# Altium integrated library Analog Devices Temperature Sensors.IntLib: 271 symbols (part 2 of 14)
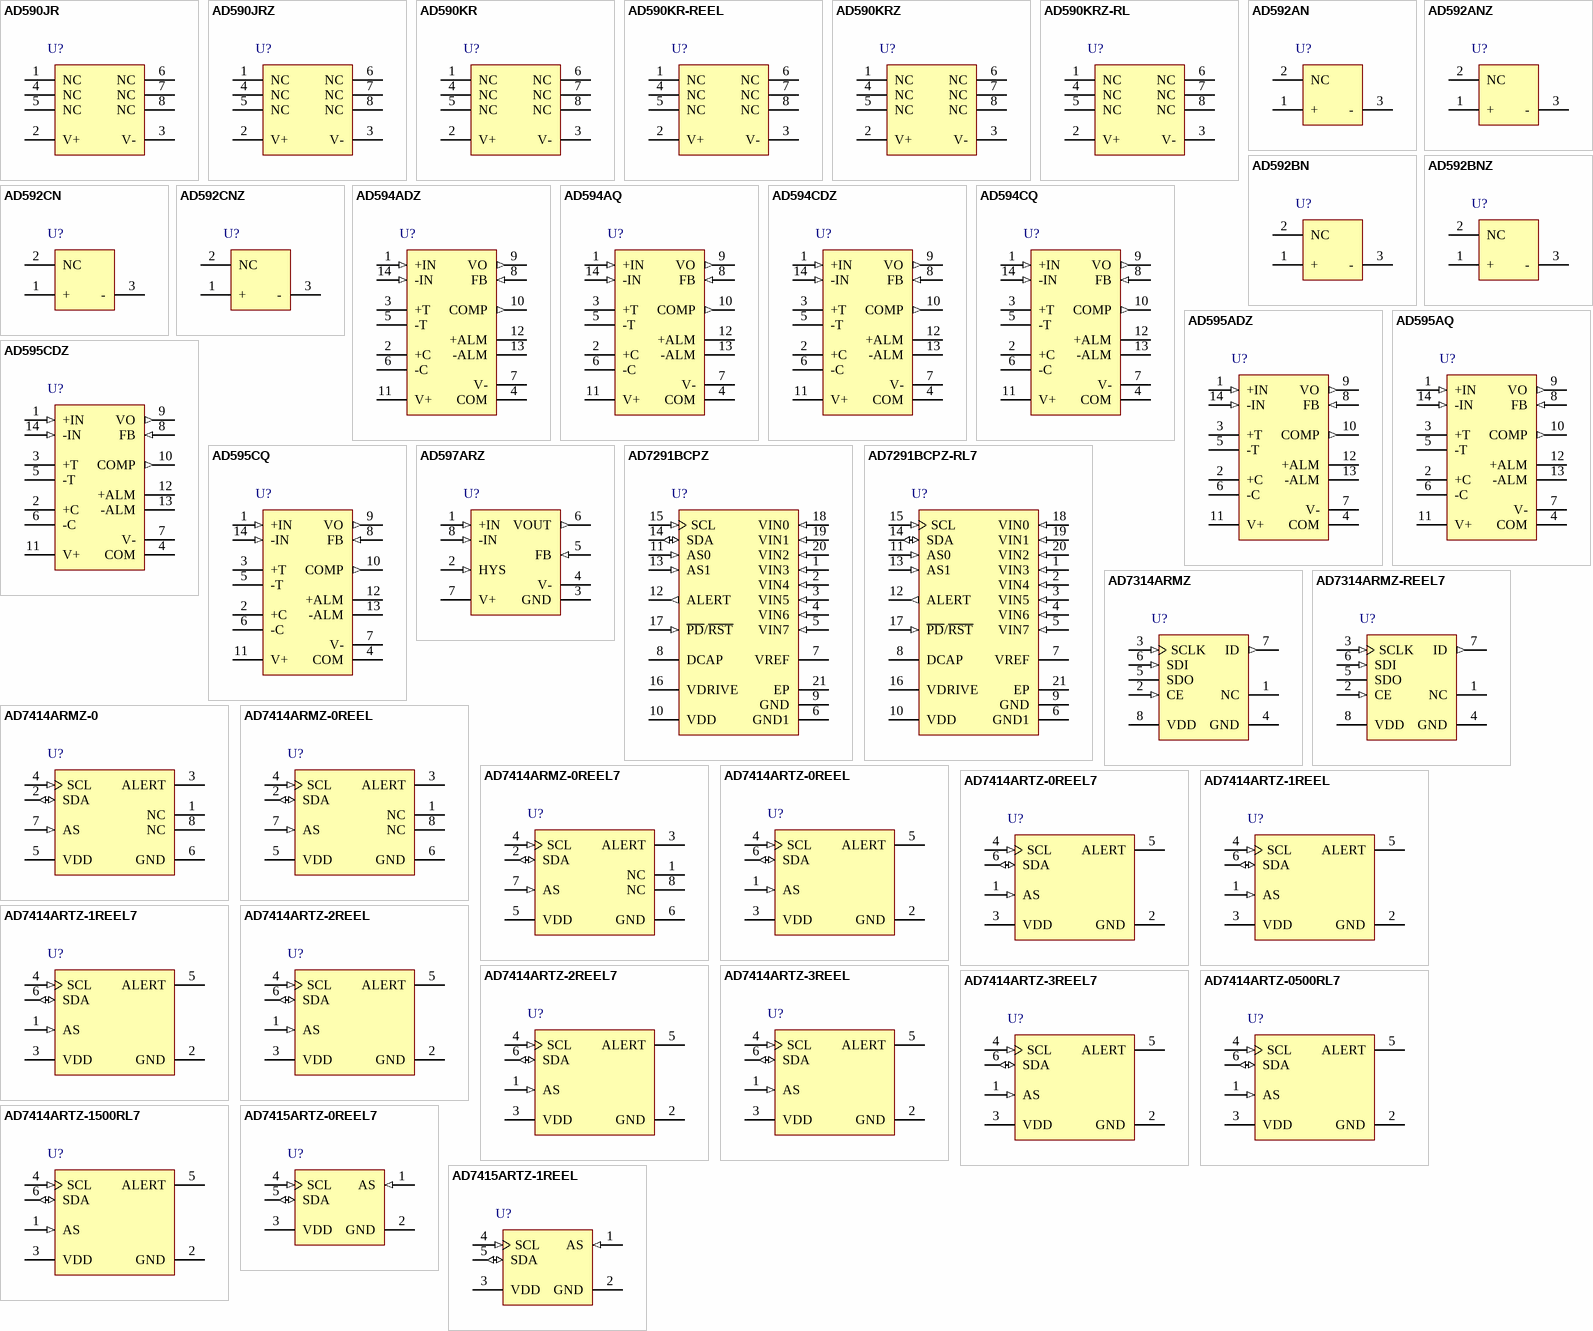
[diagram p8: symbols AD590JR to AD7415ARTZ-1REEL]

## AD7414ARMZ-0REEL
designator U?
+/-0.5 degrees C Accurate, 10-Bit Digital Temperature Sensor, 2.7 to 5.5 V Supply, Industrial, 8-pin SOP (RM-8), Reel; Manufacturer: Analog Devices; PartNumber: AD7414ARMZ-0REEL; DatasheetVersion: Rev. F; PackageVersion: 08/2005; PackageReference: RM-8; PackageDescription: 8-Pin Mini Small Outline Package, Body 3 x 3 mm, Pitch 0.65 mm; Supplier 1: Digi-Key; Supplier Part Number 1: AD7414ARMZ-0REEL-ND; Supplier 2: Mouser; Supplier Part Number 2: 584-AD7414ARMZ-0R; Packing: Reel; Supply Voltage Range: 2.7 to 5.5 V; Mounting Technology: Surface Mount; Code_JEDEC: MO-187-AA; ComponentLink1Description: Manufacturer URL; ComponentLink1URL: http://www.analog.com/en/index.html; ComponentLink2Description: Datasheet; ComponentLink2URL: http://www.analog.com/static/imported-files/data_sheets/AD7414_7415.pdf; ComponentLink3Description: Package Specification; ComponentLink3URL: http://www.analog.com/static/imported-files/packages/PKG_PDF/MSOP%28RM%29/RM_8.pdf; ComponentLink4Description: Product URL; ComponentLink4URL: http://www.analog.com/en/mems-sensors/digital-temperature-sensors/ad7414/products/product.html
footprint ADI-RM-8_N (SOP, 8-Leads, Body 3x3mm, Pitch 0.65mm, IPC Medium Density)
footprint ADI-RM-8_L (SOP, 8-Leads, Body 3x3mm, Pitch 0.65mm, IPC High Density)
footprint ADI-RM-8_M (SOP, 8-Leads, Body 3x3mm, Pitch 0.65mm, IPC Low Density)
pins: 1 NC "No Connect", 2 SDA (io) "Digital I/O. Serial bus bidirectional data. Open-drain output.", 3 ALERT (oc) "AD7414 Digital Output. Overtemperature indicator becomes active when temperature exceeds THIGH. Open-drain output.", 4 SCL (in) "Digital Input. Serial bus clock.", 5 VDD (power) "Positive Supply Voltage, 2.7 V to 5.5 V.", 6 GND (power) "Analog and Digital Ground.", 7 AS (in) "Logic Input. Address select input that selects one of three I2C addresses for the AD7414/AD7415 (see Table 4). Recommend a pull-up or pull-down resistor of 1 k ohm.", 8 NC "No Connect"

## AD7414ARMZ-0REEL7
designator U?
+/-0.5 degrees C Accurate, 10-Bit Digital Temperature Sensor, 2.7 to 5.5 V Supply, Industrial, 8-pin SOP (RM-8), Reel; Manufacturer: Analog Devices; PartNumber: AD7414ARMZ-0REEL7; DatasheetVersion: Rev. F; PackageVersion: 08/2005; PackageReference: RM-8; PackageDescription: 8-Pin Mini Small Outline Package, Body 3 x 3 mm, Pitch 0.65 mm; Supplier 1: Digi-Key; Supplier Part Number 1: AD7414ARMZ-0REEL7-ND; Supplier 2: Mouser; Supplier Part Number 2: 584-AD7414ARMZ-0R7; Packing: Reel; Supply Voltage Range: 2.7 to 5.5 V; Mounting Technology: Surface Mount; Code_JEDEC: MO-187-AA; ComponentLink1Description: Manufacturer URL; ComponentLink1URL: http://www.analog.com/en/index.html; ComponentLink2Description: Datasheet; ComponentLink2URL: http://www.analog.com/static/imported-files/data_sheets/AD7414_7415.pdf; ComponentLink3Description: Package Specification; ComponentLink3URL: http://www.analog.com/static/imported-files/packages/PKG_PDF/MSOP%28RM%29/RM_8.pdf; ComponentLink4Description: Product URL; ComponentLink4URL: http://www.analog.com/en/mems-sensors/digital-temperature-sensors/ad7414/products/product.html
footprint ADI-RM-8_N (SOP, 8-Leads, Body 3x3mm, Pitch 0.65mm, IPC Medium Density)
footprint ADI-RM-8_L (SOP, 8-Leads, Body 3x3mm, Pitch 0.65mm, IPC High Density)
footprint ADI-RM-8_M (SOP, 8-Leads, Body 3x3mm, Pitch 0.65mm, IPC Low Density)
pins: 1 NC "No Connect", 2 SDA (io) "Digital I/O. Serial bus bidirectional data. Open-drain output.", 3 ALERT (oc) "AD7414 Digital Output. Overtemperature indicator becomes active when temperature exceeds THIGH. Open-drain output.", 4 SCL (in) "Digital Input. Serial bus clock.", 5 VDD (power) "Positive Supply Voltage, 2.7 V to 5.5 V.", 6 GND (power) "Analog and Digital Ground.", 7 AS (in) "Logic Input. Address select input that selects one of three I2C addresses for the AD7414/AD7415 (see Table 4). Recommend a pull-up or pull-down resistor of 1 k ohm.", 8 NC "No Connect"

## AD7414ARTZ-0REEL
designator U?
+/-0.5 degrees C Accurate, 10-Bit Digital Temperature Sensor, 2.7 to 5.5 V Supply, Industrial, 6-pin SOT23 (RJ-6), Reel; Manufacturer: Analog Devices; PartNumber: AD7414ARTZ-0REEL; DatasheetVersion: Rev. F; PackageVersion: 121608-A, 12/2008; PackageReference: RJ-6; PackageDescription: 6-Pin Small Outline Transistor Package, Body 2.9 x 1.6 mm, Pitch 0.95 mm; Supplier 1: Digi-Key; Supplier Part Number 1: AD7414ARTZ-0REEL-ND; Supplier 2: Newark; Supplier Part Number 2: 59K4778; Supplier 3: Mouser; Supplier Part Number 3: 584-AD7414ARTZ-0R; Packing: Reel; Supply Voltage Range: 2.7 to 5.5 V; Mounting Technology: Surface Mount; Code_JEDEC: MO-178-AB; ComponentLink1Description: Manufacturer URL; ComponentLink1URL: http://www.analog.com/en/index.html; ComponentLink2Description: Datasheet; ComponentLink2URL: http://www.analog.com/static/imported-files/data_sheets/AD7414_7415.pdf; ComponentLink3Description: Package Specification; ComponentLink3URL: http://www.analog.com/static/imported-files/packages/PKG_PDF/SOT-23(RJ)/RJ_6.pdf; ComponentLink4Description: Product URL; ComponentLink4URL: http://www.analog.com/en/mems-sensors/digital-temperature-sensors/ad7414/products/product.html
footprint ADI-RJ-6_N (SOT23, 6-Leads, Body 2.9x1.6mm, Pitch 0.95mm, IPC Medium Density)
footprint ADI-RJ-6_L (SOT23, 6-Leads, Body 2.9x1.6mm, Pitch 0.95mm, IPC High Density)
footprint ADI-RJ-6_M (SOT23, 6-Leads, Body 2.9x1.6mm, Pitch 0.95mm, IPC Low Density)
pins: 1 AS (in) "Logic Input. Address select input that selects one of three I2C addresses for the AD7414/AD7415 (see Table 4). Recommend a pull-up or pull-down resistor of 1 k ohm.", 2 GND (power) "Analog and Digital Ground.", 3 VDD (power) "Positive Supply Voltage, 2.7 V to 5.5 V.", 4 SCL (in) "Digital Input. Serial bus clock", 5 ALERT (oc) "AD7414 Digital Output. Overtemperature indicator becomes active when temperature exceeds THIGH. Open-drain output", 6 SDA (io) "Digital I/O. Serial bus bidirectional data. Open-drain output."

## AD7414ARTZ-0REEL7
designator U?
+/-0.5 degrees C Accurate, 10-Bit Digital Temperature Sensor, 2.7 to 5.5 V Supply, Industrial, 6-pin SOT23 (RJ-6), Reel; Manufacturer: Analog Devices; PartNumber: AD7414ARTZ-0REEL7; DatasheetVersion: Rev. F; PackageVersion: 121608-A, 12/2008; PackageReference: RJ-6; PackageDescription: 6-Pin Small Outline Transistor Package, Body 2.9 x 1.6 mm, Pitch 0.95 mm; Supplier 1: Digi-Key; Supplier Part Number 1: AD7414ARTZ-0REEL7TR-ND; Supplier 2: Digi-Key; Supplier Part Number 2: AD7414ARTZ-0REEL7CT-ND; Supplier 3: Digi-Key; Supplier Part Number 3: AD7414ARTZ-0REEL7DKR-ND; Supplier 4: Newark; Supplier Part Number 4: 59K4779; Supplier 5: Mouser; Supplier Part Number 5: 584-AD7414ARTZ-0R7; Packing: Reel; Supply Voltage Range: 2.7 to 5.5 V; Mounting Technology: Surface Mount; Code_JEDEC: MO-178-AB; ComponentLink1Description: Manufacturer URL; ComponentLink1URL: http://www.analog.com/en/index.html; ComponentLink2Description: Datasheet; ComponentLink2URL: http://www.analog.com/static/imported-files/data_sheets/AD7414_7415.pdf; ComponentLink3Description: Package Specification; ComponentLink3URL: http://www.analog.com/static/imported-files/packages/PKG_PDF/SOT-23(RJ)/RJ_6.pdf; ComponentLink4Description: Product URL; ComponentLink4URL: http://www.analog.com/en/mems-sensors/digital-temperature-sensors/ad7414/products/product.html
footprint ADI-RJ-6_N (SOT23, 6-Leads, Body 2.9x1.6mm, Pitch 0.95mm, IPC Medium Density)
footprint ADI-RJ-6_L (SOT23, 6-Leads, Body 2.9x1.6mm, Pitch 0.95mm, IPC High Density)
footprint ADI-RJ-6_M (SOT23, 6-Leads, Body 2.9x1.6mm, Pitch 0.95mm, IPC Low Density)
pins: 1 AS (in) "Logic Input. Address select input that selects one of three I2C addresses for the AD7414/AD7415 (see Table 4). Recommend a pull-up or pull-down resistor of 1 k ohm.", 2 GND (power) "Analog and Digital Ground.", 3 VDD (power) "Positive Supply Voltage, 2.7 V to 5.5 V.", 4 SCL (in) "Digital Input. Serial bus clock", 5 ALERT (oc) "AD7414 Digital Output. Overtemperature indicator becomes active when temperature exceeds THIGH. Open-drain output", 6 SDA (io) "Digital I/O. Serial bus bidirectional data. Open-drain output."

## AD7414ARTZ-1REEL
designator U?
+/-0.5 degrees C Accurate, 10-Bit Digital Temperature Sensor, 2.7 to 5.5 V Supply, Industrial, 6-pin SOT23 (RJ-6), Reel; Manufacturer: Analog Devices; PartNumber: AD7414ARTZ-1REEL; DatasheetVersion: Rev. F; PackageVersion: 121608-A, 12/2008; PackageReference: RJ-6; PackageDescription: 6-Pin Small Outline Transistor Package, Body 2.9 x 1.6 mm, Pitch 0.95 mm; Supplier 1: Digi-Key; Supplier Part Number 1: AD7414ARTZ-1REEL-ND; Supplier 2: Mouser; Supplier Part Number 2: 584-AD7414ARTZ-1R; Packing: Reel; Supply Voltage Range: 2.7 to 5.5 V; Mounting Technology: Surface Mount; Code_JEDEC: MO-178-AB; ComponentLink1Description: Manufacturer URL; ComponentLink1URL: http://www.analog.com/en/index.html; ComponentLink2Description: Datasheet; ComponentLink2URL: http://www.analog.com/static/imported-files/data_sheets/AD7414_7415.pdf; ComponentLink3Description: Package Specification; ComponentLink3URL: http://www.analog.com/static/imported-files/packages/PKG_PDF/SOT-23(RJ)/RJ_6.pdf; ComponentLink4Description: Product URL; ComponentLink4URL: http://www.analog.com/en/mems-sensors/digital-temperature-sensors/ad7414/products/product.html
footprint ADI-RJ-6_N (SOT23, 6-Leads, Body 2.9x1.6mm, Pitch 0.95mm, IPC Medium Density)
footprint ADI-RJ-6_L (SOT23, 6-Leads, Body 2.9x1.6mm, Pitch 0.95mm, IPC High Density)
footprint ADI-RJ-6_M (SOT23, 6-Leads, Body 2.9x1.6mm, Pitch 0.95mm, IPC Low Density)
pins: 1 AS (in) "Logic Input. Address select input that selects one of three I2C addresses for the AD7414/AD7415 (see Table 4). Recommend a pull-up or pull-down resistor of 1 k ohm.", 2 GND (power) "Analog and Digital Ground.", 3 VDD (power) "Positive Supply Voltage, 2.7 V to 5.5 V.", 4 SCL (in) "Digital Input. Serial bus clock", 5 ALERT (oc) "AD7414 Digital Output. Overtemperature indicator becomes active when temperature exceeds THIGH. Open-drain output", 6 SDA (io) "Digital I/O. Serial bus bidirectional data. Open-drain output."

## AD7414ARTZ-1REEL7
designator U?
+/-0.5 degrees C Accurate, 10-Bit Digital Temperature Sensor, 2.7 to 5.5 V Supply, Industrial, 6-pin SOT23 (RJ-6), Reel; Manufacturer: Analog Devices; PartNumber: AD7414ARTZ-1REEL7; DatasheetVersion: Rev. F; PackageVersion: 121608-A, 12/2008; PackageReference: RJ-6; PackageDescription: 6-Pin Small Outline Transistor Package, Body 2.9 x 1.6 mm, Pitch 0.95 mm; Supplier 1: Digi-Key; Supplier Part Number 1: AD7414ARTZ-1REEL7TR-ND; Supplier 2: Digi-Key; Supplier Part Number 2: AD7414ARTZ-1REEL7CT-ND; Supplier 3: Digi-Key; Supplier Part Number 3: AD7414ARTZ-1REEL7DKR-ND; Supplier 4: Farnell; Supplier Part Number 4: 2312977; Supplier 5: Newark; Supplier Part Number 5: 67W3171; Supplier 6: Newark; Supplier Part Number 6: 12M8804; Supplier 7: Mouser; Supplier Part Number 7: 584-AD7414ARTZ-1R7; Packing: Reel; Supply Voltage Range: 2.7 to 5.5 V; Mounting Technology: Surface Mount; Code_JEDEC: MO-178-AB; ComponentLink1Description: Manufacturer URL; ComponentLink1URL: http://www.analog.com/en/index.html; ComponentLink2Description: Datasheet; ComponentLink2URL: http://www.analog.com/static/imported-files/data_sheets/AD7414_7415.pdf; ComponentLink3Description: Package Specification; ComponentLink3URL: http://www.analog.com/static/imported-files/packages/PKG_PDF/SOT-23(RJ)/RJ_6.pdf; ComponentLink4Description: Product URL; ComponentLink4URL: http://www.analog.com/en/mems-sensors/digital-temperature-sensors/ad7414/products/product.html
footprint ADI-RJ-6_N (SOT23, 6-Leads, Body 2.9x1.6mm, Pitch 0.95mm, IPC Medium Density)
footprint ADI-RJ-6_L (SOT23, 6-Leads, Body 2.9x1.6mm, Pitch 0.95mm, IPC High Density)
footprint ADI-RJ-6_M (SOT23, 6-Leads, Body 2.9x1.6mm, Pitch 0.95mm, IPC Low Density)
pins: 1 AS (in) "Logic Input. Address select input that selects one of three I2C addresses for the AD7414/AD7415 (see Table 4). Recommend a pull-up or pull-down resistor of 1 k ohm.", 2 GND (power) "Analog and Digital Ground.", 3 VDD (power) "Positive Supply Voltage, 2.7 V to 5.5 V.", 4 SCL (in) "Digital Input. Serial bus clock", 5 ALERT (oc) "AD7414 Digital Output. Overtemperature indicator becomes active when temperature exceeds THIGH. Open-drain output", 6 SDA (io) "Digital I/O. Serial bus bidirectional data. Open-drain output."

## AD7414ARTZ-2REEL
designator U?
+/-0.5 degrees C Accurate, 10-Bit Digital Temperature Sensor, 2.7 to 5.5 V Supply, Industrial, 6-pin SOT23 (RJ-6), Reel; Manufacturer: Analog Devices; PartNumber: AD7414ARTZ-2REEL; DatasheetVersion: Rev. F; PackageVersion: 121608-A, 12/2008; PackageReference: RJ-6; PackageDescription: 6-Pin Small Outline Transistor Package, Body 2.9 x 1.6 mm, Pitch 0.95 mm; Supplier 1: Digi-Key; Supplier Part Number 1: AD7414ARTZ-2REEL-ND; Supplier 2: Mouser; Supplier Part Number 2: 584-AD7414ARTZ-2R; Packing: Reel; Supply Voltage Range: 2.7 to 5.5 V; Mounting Technology: Surface Mount; Code_JEDEC: MO-178-AB; ComponentLink1Description: Manufacturer URL; ComponentLink1URL: http://www.analog.com/en/index.html; ComponentLink2Description: Datasheet; ComponentLink2URL: http://www.analog.com/static/imported-files/data_sheets/AD7414_7415.pdf; ComponentLink3Description: Package Specification; ComponentLink3URL: http://www.analog.com/static/imported-files/packages/PKG_PDF/SOT-23(RJ)/RJ_6.pdf; ComponentLink4Description: Product URL; ComponentLink4URL: http://www.analog.com/en/mems-sensors/digital-temperature-sensors/ad7414/products/product.html
footprint ADI-RJ-6_N (SOT23, 6-Leads, Body 2.9x1.6mm, Pitch 0.95mm, IPC Medium Density)
footprint ADI-RJ-6_L (SOT23, 6-Leads, Body 2.9x1.6mm, Pitch 0.95mm, IPC High Density)
footprint ADI-RJ-6_M (SOT23, 6-Leads, Body 2.9x1.6mm, Pitch 0.95mm, IPC Low Density)
pins: 1 AS (in) "Logic Input. Address select input that selects one of three I2C addresses for the AD7414/AD7415 (see Table 4). Recommend a pull-up or pull-down resistor of 1 k ohm.", 2 GND (power) "Analog and Digital Ground.", 3 VDD (power) "Positive Supply Voltage, 2.7 V to 5.5 V.", 4 SCL (in) "Digital Input. Serial bus clock", 5 ALERT (oc) "AD7414 Digital Output. Overtemperature indicator becomes active when temperature exceeds THIGH. Open-drain output", 6 SDA (io) "Digital I/O. Serial bus bidirectional data. Open-drain output."

## AD7414ARTZ-2REEL7
designator U?
+/-0.5 degrees C Accurate, 10-Bit Digital Temperature Sensor, 2.7 to 5.5 V Supply, Industrial, 6-pin SOT23 (RJ-6), Reel; Manufacturer: Analog Devices; PartNumber: AD7414ARTZ-2REEL7; DatasheetVersion: Rev. F; PackageVersion: 121608-A, 12/2008; PackageReference: RJ-6; PackageDescription: 6-Pin Small Outline Transistor Package, Body 2.9 x 1.6 mm, Pitch 0.95 mm; Supplier 1: Digi-Key; Supplier Part Number 1: AD7414ARTZ-2REEL7TR-ND; Supplier 2: Digi-Key; Supplier Part Number 2: AD7414ARTZ-2REEL7CT-ND; Supplier 3: Digi-Key; Supplier Part Number 3: AD7414ARTZ-2REEL7DKR-ND; Supplier 4: Mouser; Supplier Part Number 4: 584-AD7414ARTZ-2R7; Packing: Reel; Supply Voltage Range: 2.7 to 5.5 V; Mounting Technology: Surface Mount; Code_JEDEC: MO-178-AB; ComponentLink1Description: Manufacturer URL; ComponentLink1URL: http://www.analog.com/en/index.html; ComponentLink2Description: Datasheet; ComponentLink2URL: http://www.analog.com/static/imported-files/data_sheets/AD7414_7415.pdf; ComponentLink3Description: Package Specification; ComponentLink3URL: http://www.analog.com/static/imported-files/packages/PKG_PDF/SOT-23(RJ)/RJ_6.pdf; ComponentLink4Description: Product URL; ComponentLink4URL: http://www.analog.com/en/mems-sensors/digital-temperature-sensors/ad7414/products/product.html
footprint ADI-RJ-6_N (SOT23, 6-Leads, Body 2.9x1.6mm, Pitch 0.95mm, IPC Medium Density)
footprint ADI-RJ-6_L (SOT23, 6-Leads, Body 2.9x1.6mm, Pitch 0.95mm, IPC High Density)
footprint ADI-RJ-6_M (SOT23, 6-Leads, Body 2.9x1.6mm, Pitch 0.95mm, IPC Low Density)
pins: 1 AS (in) "Logic Input. Address select input that selects one of three I2C addresses for the AD7414/AD7415 (see Table 4). Recommend a pull-up or pull-down resistor of 1 k ohm.", 2 GND (power) "Analog and Digital Ground.", 3 VDD (power) "Positive Supply Voltage, 2.7 V to 5.5 V.", 4 SCL (in) "Digital Input. Serial bus clock", 5 ALERT (oc) "AD7414 Digital Output. Overtemperature indicator becomes active when temperature exceeds THIGH. Open-drain output", 6 SDA (io) "Digital I/O. Serial bus bidirectional data. Open-drain output."

## AD7414ARTZ-3REEL
designator U?
+/-0.5 degrees C Accurate, 10-Bit Digital Temperature Sensor, 2.7 to 5.5 V Supply, Industrial, 6-pin SOT23 (RJ-6), Reel; Manufacturer: Analog Devices; PartNumber: AD7414ARTZ-3REEL; DatasheetVersion: Rev. F; PackageVersion: 121608-A, 12/2008; PackageReference: RJ-6; PackageDescription: 6-Pin Small Outline Transistor Package, Body 2.9 x 1.6 mm, Pitch 0.95 mm; Supplier 1: Digi-Key; Supplier Part Number 1: AD7414ARTZ-3REEL-ND; Supplier 2: Mouser; Supplier Part Number 2: 584-AD7414ARTZ-3R; Packing: Reel; Supply Voltage Range: 2.7 to 5.5 V; Mounting Technology: Surface Mount; Code_JEDEC: MO-178-AB; ComponentLink1Description: Manufacturer URL; ComponentLink1URL: http://www.analog.com/en/index.html; ComponentLink2Description: Datasheet; ComponentLink2URL: http://www.analog.com/static/imported-files/data_sheets/AD7414_7415.pdf; ComponentLink3Description: Package Specification; ComponentLink3URL: http://www.analog.com/static/imported-files/packages/PKG_PDF/SOT-23(RJ)/RJ_6.pdf; ComponentLink4Description: Product URL; ComponentLink4URL: http://www.analog.com/en/mems-sensors/digital-temperature-sensors/ad7414/products/product.html
footprint ADI-RJ-6_N (SOT23, 6-Leads, Body 2.9x1.6mm, Pitch 0.95mm, IPC Medium Density)
footprint ADI-RJ-6_L (SOT23, 6-Leads, Body 2.9x1.6mm, Pitch 0.95mm, IPC High Density)
footprint ADI-RJ-6_M (SOT23, 6-Leads, Body 2.9x1.6mm, Pitch 0.95mm, IPC Low Density)
pins: 1 AS (in) "Logic Input. Address select input that selects one of three I2C addresses for the AD7414/AD7415 (see Table 4). Recommend a pull-up or pull-down resistor of 1 k ohm.", 2 GND (power) "Analog and Digital Ground.", 3 VDD (power) "Positive Supply Voltage, 2.7 V to 5.5 V.", 4 SCL (in) "Digital Input. Serial bus clock", 5 ALERT (oc) "AD7414 Digital Output. Overtemperature indicator becomes active when temperature exceeds THIGH. Open-drain output", 6 SDA (io) "Digital I/O. Serial bus bidirectional data. Open-drain output."

## AD7414ARTZ-3REEL7
designator U?
+/-0.5 degrees C Accurate, 10-Bit Digital Temperature Sensor, 2.7 to 5.5 V Supply, Industrial, 6-pin SOT23 (RJ-6), Reel; Manufacturer: Analog Devices; PartNumber: AD7414ARTZ-3REEL7; DatasheetVersion: Rev. F; PackageVersion: 121608-A, 12/2008; PackageReference: RJ-6; PackageDescription: 6-Pin Small Outline Transistor Package, Body 2.9 x 1.6 mm, Pitch 0.95 mm; Supplier 1: Digi-Key; Supplier Part Number 1: AD7414ARTZ-3REEL7TR-ND; Supplier 2: Digi-Key; Supplier Part Number 2: AD7414ARTZ-3REEL7CT-ND; Supplier 3: Digi-Key; Supplier Part Number 3: AD7414ARTZ-3REEL7DKR-ND; Supplier 4: Mouser; Supplier Part Number 4: 584-AD7414ARTZ-3R7; Packing: Reel; Supply Voltage Range: 2.7 to 5.5 V; Mounting Technology: Surface Mount; Code_JEDEC: MO-178-AB; ComponentLink1Description: Manufacturer URL; ComponentLink1URL: http://www.analog.com/en/index.html; ComponentLink2Description: Datasheet; ComponentLink2URL: http://www.analog.com/static/imported-files/data_sheets/AD7414_7415.pdf; ComponentLink3Description: Package Specification; ComponentLink3URL: http://www.analog.com/static/imported-files/packages/PKG_PDF/SOT-23(RJ)/RJ_6.pdf; ComponentLink4Description: Product URL; ComponentLink4URL: http://www.analog.com/en/mems-sensors/digital-temperature-sensors/ad7414/products/product.html
footprint ADI-RJ-6_N (SOT23, 6-Leads, Body 2.9x1.6mm, Pitch 0.95mm, IPC Medium Density)
footprint ADI-RJ-6_L (SOT23, 6-Leads, Body 2.9x1.6mm, Pitch 0.95mm, IPC High Density)
footprint ADI-RJ-6_M (SOT23, 6-Leads, Body 2.9x1.6mm, Pitch 0.95mm, IPC Low Density)
pins: 1 AS (in) "Logic Input. Address select input that selects one of three I2C addresses for the AD7414/AD7415 (see Table 4). Recommend a pull-up or pull-down resistor of 1 k ohm.", 2 GND (power) "Analog and Digital Ground.", 3 VDD (power) "Positive Supply Voltage, 2.7 V to 5.5 V.", 4 SCL (in) "Digital Input. Serial bus clock", 5 ALERT (oc) "AD7414 Digital Output. Overtemperature indicator becomes active when temperature exceeds THIGH. Open-drain output", 6 SDA (io) "Digital I/O. Serial bus bidirectional data. Open-drain output."

## AD7414ARTZ-0500RL7
designator U?
+/-0.5 degrees C Accurate, 10-Bit Digital Temperature Sensor, 2.7 to 5.5 V Supply, Industrial, 6-pin SOT23 (RJ-6), Reel; Manufacturer: Analog Devices; PartNumber: AD7414ARTZ-0500RL7; DatasheetVersion: Rev. F; PackageVersion: 121608-A, 12/2008; PackageReference: RJ-6; PackageDescription: 6-Pin Small Outline Transistor Package, Body 2.9 x 1.6 mm, Pitch 0.95 mm; Supplier 1: Digi-Key; Supplier Part Number 1: AD7414ARTZ0500RTR-ND; Supplier 2: Digi-Key; Supplier Part Number 2: AD7414ARTZ0500RCT-ND; Supplier 3: Digi-Key; Supplier Part Number 3: AD7414ARTZ0500RDKR-ND; Supplier 4: Farnell; Supplier Part Number 4: 1319396; Supplier 5: Newark; Supplier Part Number 5: 19M8839; Supplier 6: Newark; Supplier Part Number 6: 59K4780; Supplier 7: Mouser; Supplier Part Number 7: 584-AD7414ARTZ0500R7; Packing: Reel; Supply Voltage Range: 2.7 to 5.5 V; Mounting Technology: Surface Mount; Code_JEDEC: MO-178-AB; ComponentLink1Description: Manufacturer URL; ComponentLink1URL: http://www.analog.com/en/index.html; ComponentLink2Description: Datasheet; ComponentLink2URL: http://www.analog.com/static/imported-files/data_sheets/AD7414_7415.pdf; ComponentLink3Description: Package Specification; ComponentLink3URL: http://www.analog.com/static/imported-files/packages/PKG_PDF/SOT-23(RJ)/RJ_6.pdf; ComponentLink4Description: Product URL; ComponentLink4URL: http://www.analog.com/en/mems-sensors/digital-temperature-sensors/ad7414/products/product.html
footprint ADI-RJ-6_N (SOT23, 6-Leads, Body 2.9x1.6mm, Pitch 0.95mm, IPC Medium Density)
footprint ADI-RJ-6_L (SOT23, 6-Leads, Body 2.9x1.6mm, Pitch 0.95mm, IPC High Density)
footprint ADI-RJ-6_M (SOT23, 6-Leads, Body 2.9x1.6mm, Pitch 0.95mm, IPC Low Density)
pins: 1 AS (in) "Logic Input. Address select input that selects one of three I2C addresses for the AD7414/AD7415 (see Table 4). Recommend a pull-up or pull-down resistor of 1 k ohm.", 2 GND (power) "Analog and Digital Ground.", 3 VDD (power) "Positive Supply Voltage, 2.7 V to 5.5 V.", 4 SCL (in) "Digital Input. Serial bus clock", 5 ALERT (oc) "AD7414 Digital Output. Overtemperature indicator becomes active when temperature exceeds THIGH. Open-drain output", 6 SDA (io) "Digital I/O. Serial bus bidirectional data. Open-drain output."

## AD7414ARTZ-1500RL7
designator U?
+/-0.5 degrees C Accurate, 10-Bit Digital Temperature Sensor, 2.7 to 5.5 V Supply, Industrial, 6-pin SOT23 (RJ-6), Reel; Manufacturer: Analog Devices; PartNumber: AD7414ARTZ-1500RL7; DatasheetVersion: Rev. F; PackageVersion: 121608-A, 12/2008; PackageReference: RJ-6; PackageDescription: 6-Pin Small Outline Transistor Package, Body 2.9 x 1.6 mm, Pitch 0.95 mm; Supplier 1: Digi-Key; Supplier Part Number 1: AD7414ARTZ-1500RL7TR-ND; Supplier 2: Digi-Key; Supplier Part Number 2: AD7414ARTZ-1500RL7CT-ND; Supplier 3: Digi-Key; Supplier Part Number 3: AD7414ARTZ-1500RL7DKR-ND; Supplier 4: Farnell; Supplier Part Number 4: 1699530; Supplier 5: Newark; Supplier Part Number 5: 12M8805; Supplier 6: Mouser; Supplier Part Number 6: 584-AD7414ARTZ1500R7; Packing: Reel; Supply Voltage Range: 2.7 to 5.5 V; Mounting Technology: Surface Mount; Code_JEDEC: MO-178-AB; ComponentLink1Description: Manufacturer URL; ComponentLink1URL: http://www.analog.com/en/index.html; ComponentLink2Description: Datasheet; ComponentLink2URL: http://www.analog.com/static/imported-files/data_sheets/AD7414_7415.pdf; ComponentLink3Description: Package Specification; ComponentLink3URL: http://www.analog.com/static/imported-files/packages/PKG_PDF/SOT-23(RJ)/RJ_6.pdf; ComponentLink4Description: Product URL; ComponentLink4URL: http://www.analog.com/en/mems-sensors/digital-temperature-sensors/ad7414/products/product.html
footprint ADI-RJ-6_N (SOT23, 6-Leads, Body 2.9x1.6mm, Pitch 0.95mm, IPC Medium Density)
footprint ADI-RJ-6_L (SOT23, 6-Leads, Body 2.9x1.6mm, Pitch 0.95mm, IPC High Density)
footprint ADI-RJ-6_M (SOT23, 6-Leads, Body 2.9x1.6mm, Pitch 0.95mm, IPC Low Density)
pins: 1 AS (in) "Logic Input. Address select input that selects one of three I2C addresses for the AD7414/AD7415 (see Table 4). Recommend a pull-up or pull-down resistor of 1 k ohm.", 2 GND (power) "Analog and Digital Ground.", 3 VDD (power) "Positive Supply Voltage, 2.7 V to 5.5 V.", 4 SCL (in) "Digital Input. Serial bus clock", 5 ALERT (oc) "AD7414 Digital Output. Overtemperature indicator becomes active when temperature exceeds THIGH. Open-drain output", 6 SDA (io) "Digital I/O. Serial bus bidirectional data. Open-drain output."

## AD7415ARTZ-0REEL7
designator U?
+/-0.5 degrees C Accurate, 10-Bit Digital Temperature Sensor, 2.7 to 5.5 V Supply, Industrial, 5-pin SOT23 (RJ-5), Reel; Manufacturer: Analog Devices; PartNumber: AD7415ARTZ-0REEL7; DatasheetVersion: Rev. F; PackageVersion: 121608-A , 12/2008; PackageReference: RJ-5; PackageDescription: 5-Pin Small Outline Transistor Package, Body 2.9 x 1.6 mm, Pitch 0.95 mm; Supplier 1: Digi-Key; Supplier Part Number 1: AD7415ARTZ-0REEL7TR-ND; Supplier 2: Digi-Key; Supplier Part Number 2: AD7415ARTZ-0REEL7CT-ND; Supplier 3: Digi-Key; Supplier Part Number 3: AD7415ARTZ-0REEL7DKR-ND; Supplier 4: Newark; Supplier Part Number 4: 59K4782; Supplier 5: Mouser; Supplier Part Number 5: 584-AD7415ARTZ-0R7; Packing: Reel; Supply Voltage Range: 2.7 to 5.5 V; Mounting Technology: Surface Mount; Code_JEDEC: MO-178-AA; ComponentLink1Description: Manufacturer URL; ComponentLink1URL: http://www.analog.com/en/index.html; ComponentLink2Description: Datasheet; ComponentLink2URL: http://www.analog.com/static/imported-files/data_sheets/AD7414_7415.pdf; ComponentLink3Description: Package Specification; ComponentLink3URL: http://www.analog.com/static/imported-files/packages/PKG_PDF/SOT-23(RJ)/RJ_5.pdf; ComponentLink4Description: Product URL; ComponentLink4URL: http://www.analog.com/en/mems-sensors/digital-temperature-sensors/ad7415/products/product.html
footprint ADI-RJ-5_N (SOT-23, 5-Leads, Body 2.9x1.6mm, Pitch 0.95mm, IPC Medium Density)
footprint ADI-RJ-5_L (SOT-23, 5-Leads, Body 2.9x1.6mm, Pitch 0.95mm, IPC High Density)
footprint ADI-RJ-5_M (SOT-23, 5-Leads, Body 2.9x1.6mm, Pitch 0.95mm, IPC Low Density)
pins: 1 AS (in) "Logic Input. Address select input that selects one of three I2C addresses for the AD7414/AD7415 (see Table 4). Recommend a pull-up or pull-down resistor of 1 k ohm.", 2 GND (power) "Analog and Digital Ground.", 3 VDD (power) "Positive Supply Voltage, 2.7 V to 5.5 V.", 4 SCL (in) "Digital Input. Serial bus clock.", 5 SDA (io) "Digital I/O. Serial bus bidirectional data. Open-drain output."

## AD7415ARTZ-1REEL
designator U?
+/-0.5 degrees C Accurate, 10-Bit Digital Temperature Sensor, 2.7 to 5.5 V Supply, Industrial, 5-pin SOT23 (RJ-5), Reel; Manufacturer: Analog Devices; PartNumber: AD7415ARTZ-1REEL; DatasheetVersion: Rev. F; PackageVersion: 121608-A , 12/2008; PackageReference: RJ-5; PackageDescription: 5-Pin Small Outline Transistor Package, Body 2.9 x 1.6 mm, Pitch 0.95 mm; Supplier 1: Digi-Key; Supplier Part Number 1: AD7415ARTZ-1REEL-ND; Supplier 2: Mouser; Supplier Part Number 2: 584-AD7415ARTZ-1R; Packing: Reel; Supply Voltage Range: 2.7 to 5.5 V; Mounting Technology: Surface Mount; Code_JEDEC: MO-178-AA; ComponentLink1Description: Manufacturer URL; ComponentLink1URL: http://www.analog.com/en/index.html; ComponentLink2Description: Datasheet; ComponentLink2URL: http://www.analog.com/static/imported-files/data_sheets/AD7414_7415.pdf; ComponentLink3Description: Package Specification; ComponentLink3URL: http://www.analog.com/static/imported-files/packages/PKG_PDF/SOT-23(RJ)/RJ_5.pdf; ComponentLink4Description: Product URL; ComponentLink4URL: http://www.analog.com/en/mems-sensors/digital-temperature-sensors/ad7415/products/product.html
footprint ADI-RJ-5_N (SOT-23, 5-Leads, Body 2.9x1.6mm, Pitch 0.95mm, IPC Medium Density)
footprint ADI-RJ-5_L (SOT-23, 5-Leads, Body 2.9x1.6mm, Pitch 0.95mm, IPC High Density)
footprint ADI-RJ-5_M (SOT-23, 5-Leads, Body 2.9x1.6mm, Pitch 0.95mm, IPC Low Density)
pins: 1 AS (in) "Logic Input. Address select input that selects one of three I2C addresses for the AD7414/AD7415 (see Table 4). Recommend a pull-up or pull-down resistor of 1 k ohm.", 2 GND (power) "Analog and Digital Ground.", 3 VDD (power) "Positive Supply Voltage, 2.7 V to 5.5 V.", 4 SCL (in) "Digital Input. Serial bus clock.", 5 SDA (io) "Digital I/O. Serial bus bidirectional data. Open-drain output."

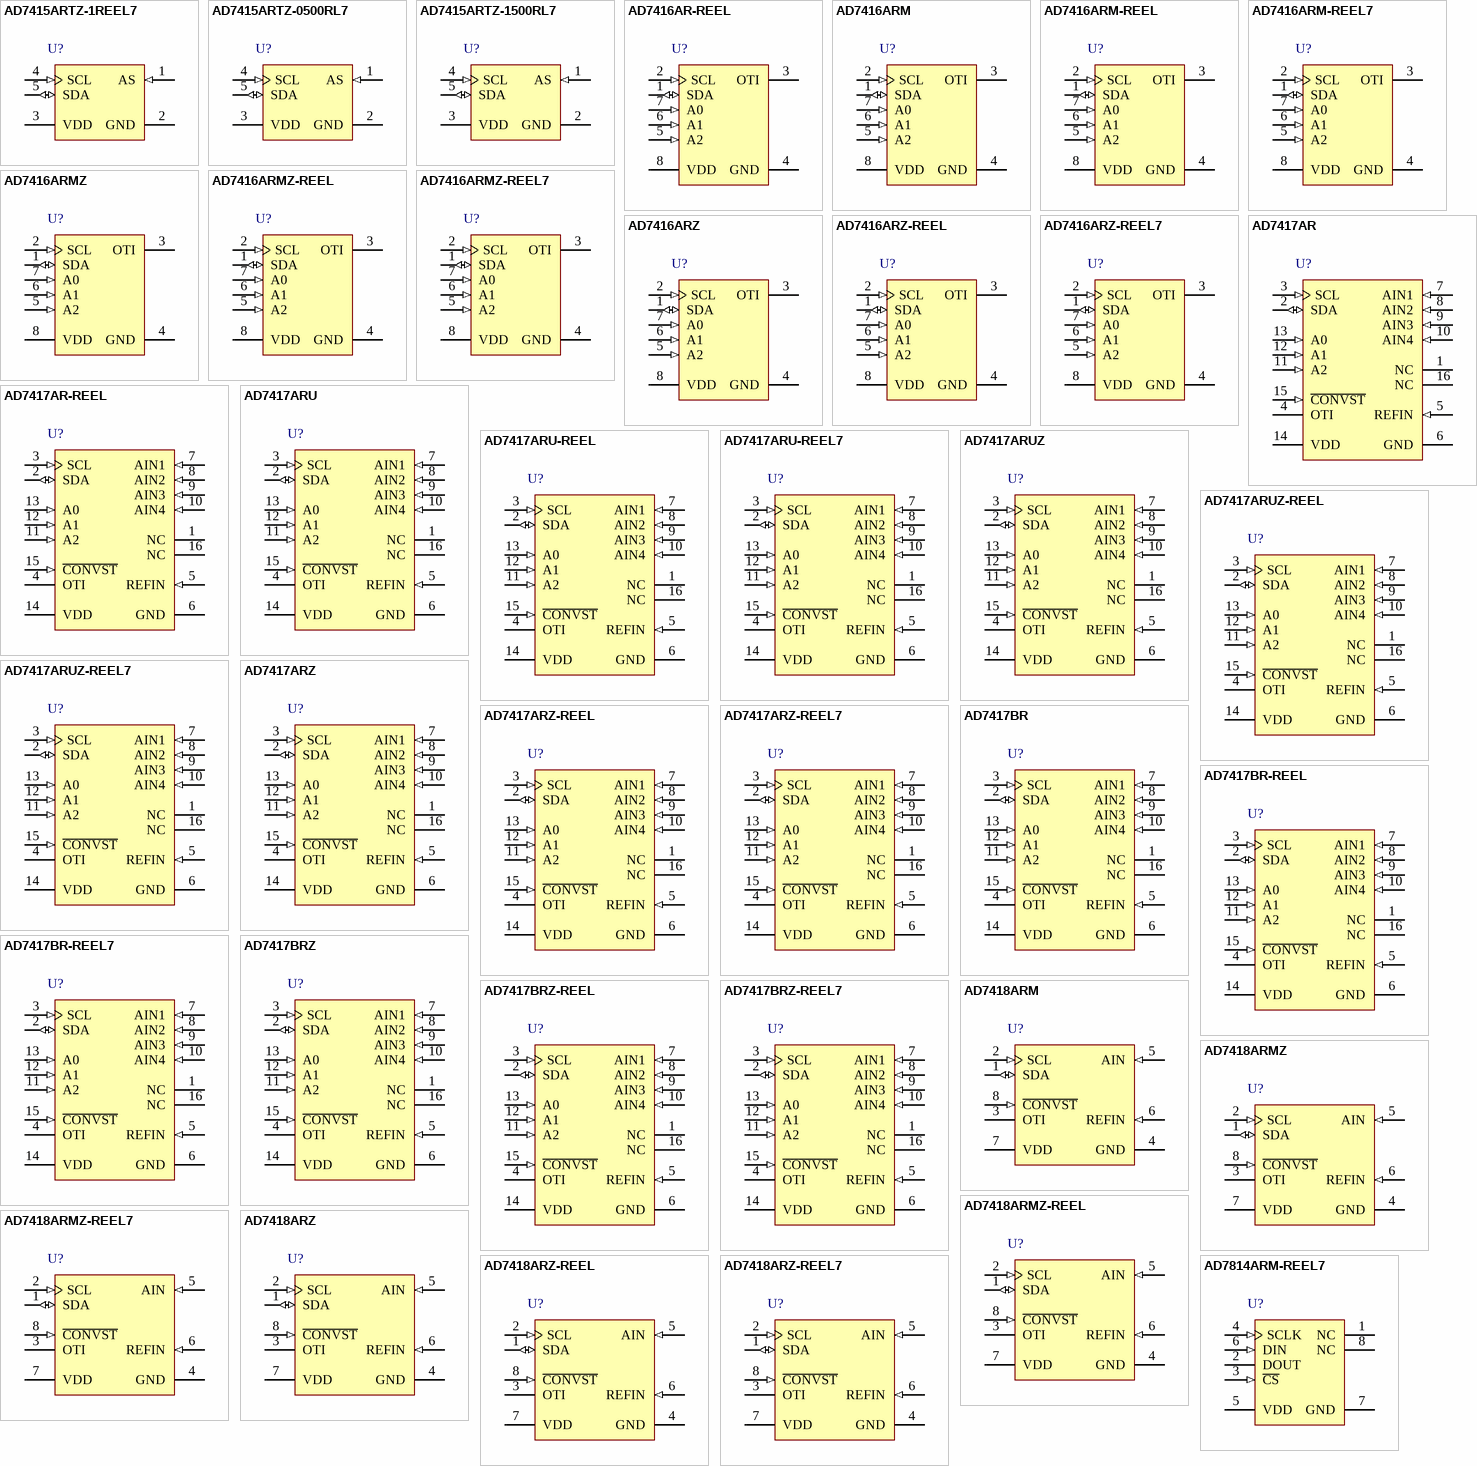
[diagram p1: symbols AD7415ARTZ-1REEL7 to AD7814ARM-REEL7]

## AD7415ARTZ-1REEL7
designator U?
+/-0.5 degrees C Accurate, 10-Bit Digital Temperature Sensor, 2.7 to 5.5 V Supply, Industrial, 5-pin SOT23 (RJ-5), Reel; Manufacturer: Analog Devices; PartNumber: AD7415ARTZ-1REEL7; DatasheetVersion: Rev. F; PackageVersion: 121608-A , 12/2008; PackageReference: RJ-5; PackageDescription: 5-Pin Small Outline Transistor Package, Body 2.9 x 1.6 mm, Pitch 0.95 mm; Supplier 1: Digi-Key; Supplier Part Number 1: AD7415ARTZ-1REEL7TR-ND; Supplier 2: Digi-Key; Supplier Part Number 2: AD7415ARTZ-1REEL7CT-ND; Supplier 3: Digi-Key; Supplier Part Number 3: AD7415ARTZ-1REEL7DKR-ND; Supplier 4: Mouser; Supplier Part Number 4: 584-AD7415ARTZ-1R7; Packing: Reel; Supply Voltage Range: 2.7 to 5.5 V; Mounting Technology: Surface Mount; Code_JEDEC: MO-178-AA; ComponentLink1Description: Manufacturer URL; ComponentLink1URL: http://www.analog.com/en/index.html; ComponentLink2Description: Datasheet; ComponentLink2URL: http://www.analog.com/static/imported-files/data_sheets/AD7414_7415.pdf; ComponentLink3Description: Package Specification; ComponentLink3URL: http://www.analog.com/static/imported-files/packages/PKG_PDF/SOT-23(RJ)/RJ_5.pdf; ComponentLink4Description: Product URL; ComponentLink4URL: http://www.analog.com/en/mems-sensors/digital-temperature-sensors/ad7415/products/product.html
footprint ADI-RJ-5_N (SOT-23, 5-Leads, Body 2.9x1.6mm, Pitch 0.95mm, IPC Medium Density)
footprint ADI-RJ-5_L (SOT-23, 5-Leads, Body 2.9x1.6mm, Pitch 0.95mm, IPC High Density)
footprint ADI-RJ-5_M (SOT-23, 5-Leads, Body 2.9x1.6mm, Pitch 0.95mm, IPC Low Density)
pins: 1 AS (in) "Logic Input. Address select input that selects one of three I2C addresses for the AD7414/AD7415 (see Table 4). Recommend a pull-up or pull-down resistor of 1 k ohm.", 2 GND (power) "Analog and Digital Ground.", 3 VDD (power) "Positive Supply Voltage, 2.7 V to 5.5 V.", 4 SCL (in) "Digital Input. Serial bus clock.", 5 SDA (io) "Digital I/O. Serial bus bidirectional data. Open-drain output."

## AD7415ARTZ-0500RL7
designator U?
+/-0.5 degrees C Accurate, 10-Bit Digital Temperature Sensor, 2.7 to 5.5 V Supply, Industrial, 5-pin SOT23 (RJ-5), Reel; Manufacturer: Analog Devices; PartNumber: AD7415ARTZ-0500RL7; DatasheetVersion: Rev. F; PackageVersion: 121608-A , 12/2008; PackageReference: RJ-5; PackageDescription: 5-Pin Small Outline Transistor Package, Body 2.9 x 1.6 mm, Pitch 0.95 mm; Supplier 1: Digi-Key; Supplier Part Number 1: AD7415ARTZ-0500RL7TR-ND; Supplier 2: Digi-Key; Supplier Part Number 2: AD7415ARTZ-0500RL7CT-ND; Supplier 3: Digi-Key; Supplier Part Number 3: AD7415ARTZ-0500RL7DKR-ND; Supplier 4: Farnell; Supplier Part Number 4: 1319397; Supplier 5: Newark; Supplier Part Number 5: 19M8840; Supplier 6: Newark; Supplier Part Number 6: 59K4783; Supplier 7: Mouser; Supplier Part Number 7: 584-AD7415ARTZ0500R7; Packing: Reel; Supply Voltage Range: 2.7 to 5.5 V; Mounting Technology: Surface Mount; Code_JEDEC: MO-178-AA; ComponentLink1Description: Manufacturer URL; ComponentLink1URL: http://www.analog.com/en/index.html; ComponentLink2Description: Datasheet; ComponentLink2URL: http://www.analog.com/static/imported-files/data_sheets/AD7414_7415.pdf; ComponentLink3Description: Package Specification; ComponentLink3URL: http://www.analog.com/static/imported-files/packages/PKG_PDF/SOT-23(RJ)/RJ_5.pdf; ComponentLink4Description: Product URL; ComponentLink4URL: http://www.analog.com/en/mems-sensors/digital-temperature-sensors/ad7415/products/product.html
footprint ADI-RJ-5_N (SOT-23, 5-Leads, Body 2.9x1.6mm, Pitch 0.95mm, IPC Medium Density)
footprint ADI-RJ-5_L (SOT-23, 5-Leads, Body 2.9x1.6mm, Pitch 0.95mm, IPC High Density)
footprint ADI-RJ-5_M (SOT-23, 5-Leads, Body 2.9x1.6mm, Pitch 0.95mm, IPC Low Density)
pins: 1 AS (in) "Logic Input. Address select input that selects one of three I2C addresses for the AD7414/AD7415 (see Table 4). Recommend a pull-up or pull-down resistor of 1 k ohm.", 2 GND (power) "Analog and Digital Ground.", 3 VDD (power) "Positive Supply Voltage, 2.7 V to 5.5 V.", 4 SCL (in) "Digital Input. Serial bus clock.", 5 SDA (io) "Digital I/O. Serial bus bidirectional data. Open-drain output."

## AD7415ARTZ-1500RL7
designator U?
+/-0.5 degrees C Accurate, 10-Bit Digital Temperature Sensor, 2.7 to 5.5 V Supply, Industrial, 5-pin SOT23 (RJ-5), Reel; Manufacturer: Analog Devices; PartNumber: AD7415ARTZ-1500RL7; DatasheetVersion: Rev. F; PackageVersion: 121608-A , 12/2008; PackageReference: RJ-5; PackageDescription: 5-Pin Small Outline Transistor Package, Body 2.9 x 1.6 mm, Pitch 0.95 mm; Supplier 1: Digi-Key; Supplier Part Number 1: AD7415ARTZ-1500RL7TR-ND; Supplier 2: Digi-Key; Supplier Part Number 2: AD7415ARTZ-1500RL7CT-ND; Supplier 3: Digi-Key; Supplier Part Number 3: AD7415ARTZ-1500RL7DKR-ND; Supplier 4: Newark; Supplier Part Number 4: 12M8810; Supplier 5: Mouser; Supplier Part Number 5: 584-AD7415ARTZ1500R7; Packing: Reel; Supply Voltage Range: 2.7 to 5.5 V; Mounting Technology: Surface Mount; Code_JEDEC: MO-178-AA; ComponentLink1Description: Manufacturer URL; ComponentLink1URL: http://www.analog.com/en/index.html; ComponentLink2Description: Datasheet; ComponentLink2URL: http://www.analog.com/static/imported-files/data_sheets/AD7414_7415.pdf; ComponentLink3Description: Package Specification; ComponentLink3URL: http://www.analog.com/static/imported-files/packages/PKG_PDF/SOT-23(RJ)/RJ_5.pdf; ComponentLink4Description: Product URL; ComponentLink4URL: http://www.analog.com/en/mems-sensors/digital-temperature-sensors/ad7415/products/product.html
footprint ADI-RJ-5_N (SOT-23, 5-Leads, Body 2.9x1.6mm, Pitch 0.95mm, IPC Medium Density)
footprint ADI-RJ-5_L (SOT-23, 5-Leads, Body 2.9x1.6mm, Pitch 0.95mm, IPC High Density)
footprint ADI-RJ-5_M (SOT-23, 5-Leads, Body 2.9x1.6mm, Pitch 0.95mm, IPC Low Density)
pins: 1 AS (in) "Logic Input. Address select input that selects one of three I2C addresses for the AD7414/AD7415 (see Table 4). Recommend a pull-up or pull-down resistor of 1 k ohm.", 2 GND (power) "Analog and Digital Ground.", 3 VDD (power) "Positive Supply Voltage, 2.7 V to 5.5 V.", 4 SCL (in) "Digital Input. Serial bus clock.", 5 SDA (io) "Digital I/O. Serial bus bidirectional data. Open-drain output."

## AD7416AR-REEL
designator U?
10-Bit Digital Temperature Sensor and Four Single-Channel ADCs, 2.7 to 5.5 V Supply, Industrial, 8-pin SOIC (R-8), Reel; Manufacturer: Analog Devices; PartNumber: AD7416AR-REEL; DatasheetVersion: Rev. I; PackageVersion: 060506-A, 06/2006; PackageReference: R-8; PackageDescription: 8-Pin Standard Small Outline Package, Body 4.9 x 3.9 mm, Pitch 1.27 mm; Supplier 1: Newark; Supplier Part Number 1: 09B5698; Supplier 2: Mouser; Supplier Part Number 2: N/A; Packing: Reel; Supply Voltage Range: 2.7 to 5.5 V; Mounting Technology: Surface Mount; Code_JEDEC: MS-012-AA; ComponentLink1Description: Manufacturer URL; ComponentLink1URL: http://www.analog.com/en/index.html; ComponentLink2Description: Datasheet; ComponentLink2URL: http://www.analog.com/static/imported-files/data_sheets/AD7416_7417_7418.pdf; ComponentLink3Description: Package Specification; ComponentLink3URL: http://www.analog.com/static/imported-files/packages/PKG_PDF/SOIC_Narrow%20(R)/R_8.pdf; ComponentLink4Description: Product URL; ComponentLink4URL: http://www.analog.com/en/mems-sensors/digital-temperature-sensors/ad7416/products/product.html
footprint ADI-R-8_N (SOIC, 8-Leads, Body 4.9x3.9mm, Pitch 1.27mm, IPC Medium Density)
footprint ADI-R-8_L (SOIC, 8-Leads, Body 4.9x3.9mm, Pitch 1.27mm, IPC High Density)
footprint ADI-R-8_M (SOIC, 8-Leads, Body 4.9x3.9mm, Pitch 1.27mm, IPC Low Density)
pins: 1 SDA (io) "Digital I/O. Serial bus bidirectional data. Push-pull output.", 2 SCL (in) "Digital Input. Serial bus clock.", 3 OTI (oc) "This pin is a logic output. The OTI is set if the result of a conversion on Channel 0 (temperature sensor) is greater than an 8-bit word in the TOTI setpoint register. The signal is reset at the end of a serial read (See Datasheet)", 4 GND (power) "Ground reference for track-and-hold, comparator and capacitor DAC, and digital circuitry.", 5 A2 (in) "Digital Input. This is the highest programmable bit of the serial bus address.", 6 A1 (in) "Digital Input. This is the middle programmable bit of the serial bus address.", 7 A0 (in) "Digital Input. This is the lowest programmable bit of the serial bus address.", 8 VDD (power) "Positive Supply Voltage, 2.7 V to 5.5 V."

## AD7416ARM
designator U?
10-Bit Digital Temperature Sensor and Four Single-Channel ADCs, 2.7 to 5.5 V Supply, Industrial, 8-pin SOP (RM-8), Tube; Manufacturer: Analog Devices; PartNumber: AD7416ARM; DatasheetVersion: Rev. I; PackageVersion: 08/2005; PackageReference: RM-8; PackageDescription: 8-Pin Mini Small Outline Package, Body 3 x 3 mm, Pitch 0.65 mm; Supplier 1: Digi-Key; Supplier Part Number 1: AD7416ARM-ND; Supplier 2: Mouser; Supplier Part Number 2: 584-AD7416ARM; Packing: Tube; Supply Voltage Range: 2.7 to 5.5 V; Mounting Technology: Surface Mount; Code_JEDEC: MO-187-AA; ComponentLink1Description: Manufacturer URL; ComponentLink1URL: http://www.analog.com/en/index.html; ComponentLink2Description: Datasheet; ComponentLink2URL: http://www.analog.com/static/imported-files/data_sheets/AD7416_7417_7418.pdf; ComponentLink3Description: Package Specification; ComponentLink3URL: http://www.analog.com/static/imported-files/packages/PKG_PDF/MSOP%28RM%29/RM_8.pdf; ComponentLink4Description: Product URL; ComponentLink4URL: http://www.analog.com/en/mems-sensors/digital-temperature-sensors/ad7416/products/product.html
footprint ADI-RM-8_N (SOP, 8-Leads, Body 3x3mm, Pitch 0.65mm, IPC Medium Density)
footprint ADI-RM-8_L (SOP, 8-Leads, Body 3x3mm, Pitch 0.65mm, IPC High Density)
footprint ADI-RM-8_M (SOP, 8-Leads, Body 3x3mm, Pitch 0.65mm, IPC Low Density)
pins: 1 SDA (io) "Digital I/O. Serial bus bidirectional data. Push-pull output.", 2 SCL (in) "Digital Input. Serial bus clock.", 3 OTI (oc) "This pin is a logic output. The OTI is set if the result of a conversion on Channel 0 (temperature sensor) is greater than an 8-bit word in the TOTI setpoint register. The signal is reset at the end of a serial read (See Datasheet)", 4 GND (power) "Ground reference for track-and-hold, comparator and capacitor DAC, and digital circuitry.", 5 A2 (in) "Digital Input. This is the highest programmable bit of the serial bus address.", 6 A1 (in) "Digital Input. This is the middle programmable bit of the serial bus address.", 7 A0 (in) "Digital Input. This is the lowest programmable bit of the serial bus address.", 8 VDD (power) "Positive Supply Voltage, 2.7 V to 5.5 V."

## AD7416ARM-REEL
designator U?
10-Bit Digital Temperature Sensor and Four Single-Channel ADCs, 2.7 to 5.5 V Supply, Industrial, 8-pin SOP (RM-8), Reel; Manufacturer: Analog Devices; PartNumber: AD7416ARM-REEL; DatasheetVersion: Rev. I; PackageVersion: 08/2005; PackageReference: RM-8; PackageDescription: 8-Pin Mini Small Outline Package, Body 3 x 3 mm, Pitch 0.65 mm; Supplier 1: Digi-Key; Supplier Part Number 1: AD7416ARM-REEL-ND; Supplier 2: Newark; Supplier Part Number 2: 09B5696; Supplier 3: Mouser; Supplier Part Number 3: 584-AD7416ARM-R; Packing: Reel; Supply Voltage Range: 2.7 to 5.5 V; Mounting Technology: Surface Mount; Code_JEDEC: MO-187-AA; ComponentLink1Description: Manufacturer URL; ComponentLink1URL: http://www.analog.com/en/index.html; ComponentLink2Description: Datasheet; ComponentLink2URL: http://www.analog.com/static/imported-files/data_sheets/AD7416_7417_7418.pdf; ComponentLink3Description: Package Specification; ComponentLink3URL: http://www.analog.com/static/imported-files/packages/PKG_PDF/MSOP%28RM%29/RM_8.pdf; ComponentLink4Description: Product URL; ComponentLink4URL: http://www.analog.com/en/mems-sensors/digital-temperature-sensors/ad7416/products/product.html
footprint ADI-RM-8_N (SOP, 8-Leads, Body 3x3mm, Pitch 0.65mm, IPC Medium Density)
footprint ADI-RM-8_L (SOP, 8-Leads, Body 3x3mm, Pitch 0.65mm, IPC High Density)
footprint ADI-RM-8_M (SOP, 8-Leads, Body 3x3mm, Pitch 0.65mm, IPC Low Density)
pins: 1 SDA (io) "Digital I/O. Serial bus bidirectional data. Push-pull output.", 2 SCL (in) "Digital Input. Serial bus clock.", 3 OTI (oc) "This pin is a logic output. The OTI is set if the result of a conversion on Channel 0 (temperature sensor) is greater than an 8-bit word in the TOTI setpoint register. The signal is reset at the end of a serial read (See Datasheet)", 4 GND (power) "Ground reference for track-and-hold, comparator and capacitor DAC, and digital circuitry.", 5 A2 (in) "Digital Input. This is the highest programmable bit of the serial bus address.", 6 A1 (in) "Digital Input. This is the middle programmable bit of the serial bus address.", 7 A0 (in) "Digital Input. This is the lowest programmable bit of the serial bus address.", 8 VDD (power) "Positive Supply Voltage, 2.7 V to 5.5 V."

## AD7416ARM-REEL7
designator U?
10-Bit Digital Temperature Sensor and Four Single-Channel ADCs, 2.7 to 5.5 V Supply, Industrial, 8-pin SOP (RM-8), Reel; Manufacturer: Analog Devices; PartNumber: AD7416ARM-REEL7; DatasheetVersion: Rev. I; PackageVersion: 08/2005; PackageReference: RM-8; PackageDescription: 8-Pin Mini Small Outline Package, Body 3 x 3 mm, Pitch 0.65 mm; Supplier 1: Digi-Key; Supplier Part Number 1: AD7416ARM-REEL7-ND; Supplier 2: Newark; Supplier Part Number 2: 09B5697; Supplier 3: Mouser; Supplier Part Number 3: 584-AD7416ARM-R7; Packing: Reel; Supply Voltage Range: 2.7 to 5.5 V; Mounting Technology: Surface Mount; Code_JEDEC: MO-187-AA; ComponentLink1Description: Manufacturer URL; ComponentLink1URL: http://www.analog.com/en/index.html; ComponentLink2Description: Datasheet; ComponentLink2URL: http://www.analog.com/static/imported-files/data_sheets/AD7416_7417_7418.pdf; ComponentLink3Description: Package Specification; ComponentLink3URL: http://www.analog.com/static/imported-files/packages/PKG_PDF/MSOP%28RM%29/RM_8.pdf; ComponentLink4Description: Product URL; ComponentLink4URL: http://www.analog.com/en/mems-sensors/digital-temperature-sensors/ad7416/products/product.html
footprint ADI-RM-8_N (SOP, 8-Leads, Body 3x3mm, Pitch 0.65mm, IPC Medium Density)
footprint ADI-RM-8_L (SOP, 8-Leads, Body 3x3mm, Pitch 0.65mm, IPC High Density)
footprint ADI-RM-8_M (SOP, 8-Leads, Body 3x3mm, Pitch 0.65mm, IPC Low Density)
pins: 1 SDA (io) "Digital I/O. Serial bus bidirectional data. Push-pull output.", 2 SCL (in) "Digital Input. Serial bus clock.", 3 OTI (oc) "This pin is a logic output. The OTI is set if the result of a conversion on Channel 0 (temperature sensor) is greater than an 8-bit word in the TOTI setpoint register. The signal is reset at the end of a serial read (See Datasheet)", 4 GND (power) "Ground reference for track-and-hold, comparator and capacitor DAC, and digital circuitry.", 5 A2 (in) "Digital Input. This is the highest programmable bit of the serial bus address.", 6 A1 (in) "Digital Input. This is the middle programmable bit of the serial bus address.", 7 A0 (in) "Digital Input. This is the lowest programmable bit of the serial bus address.", 8 VDD (power) "Positive Supply Voltage, 2.7 V to 5.5 V."

## AD7416ARMZ
designator U?
10-Bit Digital Temperature Sensor and Four Single-Channel ADCs, 2.7 to 5.5 V Supply, Industrial, 8-pin SOP (RM-8), Tube; Manufacturer: Analog Devices; PartNumber: AD7416ARMZ; DatasheetVersion: Rev. I; PackageVersion: 08/2005; PackageReference: RM-8; PackageDescription: 8-Pin Mini Small Outline Package, Body 3 x 3 mm, Pitch 0.65 mm; Supplier 1: Digi-Key; Supplier Part Number 1: AD7416ARMZ-ND; Supplier 2: Newark; Supplier Part Number 2: 59K4786; Supplier 3: Mouser; Supplier Part Number 3: 584-AD7416ARMZ; Packing: Tube; Supply Voltage Range: 2.7 to 5.5 V; Mounting Technology: Surface Mount; Code_JEDEC: MO-187-AA; ComponentLink1Description: Manufacturer URL; ComponentLink1URL: http://www.analog.com/en/index.html; ComponentLink2Description: Datasheet; ComponentLink2URL: http://www.analog.com/static/imported-files/data_sheets/AD7416_7417_7418.pdf; ComponentLink3Description: Package Specification; ComponentLink3URL: http://www.analog.com/static/imported-files/packages/PKG_PDF/MSOP%28RM%29/RM_8.pdf; ComponentLink4Description: Product URL; ComponentLink4URL: http://www.analog.com/en/mems-sensors/digital-temperature-sensors/ad7416/products/product.html
footprint ADI-RM-8_N (SOP, 8-Leads, Body 3x3mm, Pitch 0.65mm, IPC Medium Density)
footprint ADI-RM-8_L (SOP, 8-Leads, Body 3x3mm, Pitch 0.65mm, IPC High Density)
footprint ADI-RM-8_M (SOP, 8-Leads, Body 3x3mm, Pitch 0.65mm, IPC Low Density)
pins: 1 SDA (io) "Digital I/O. Serial bus bidirectional data. Push-pull output.", 2 SCL (in) "Digital Input. Serial bus clock.", 3 OTI (oc) "This pin is a logic output. The OTI is set if the result of a conversion on Channel 0 (temperature sensor) is greater than an 8-bit word in the TOTI setpoint register. The signal is reset at the end of a serial read (See Datasheet)", 4 GND (power) "Ground reference for track-and-hold, comparator and capacitor DAC, and digital circuitry.", 5 A2 (in) "Digital Input. This is the highest programmable bit of the serial bus address.", 6 A1 (in) "Digital Input. This is the middle programmable bit of the serial bus address.", 7 A0 (in) "Digital Input. This is the lowest programmable bit of the serial bus address.", 8 VDD (power) "Positive Supply Voltage, 2.7 V to 5.5 V."

## AD7416ARMZ-REEL
designator U?
10-Bit Digital Temperature Sensor and Four Single-Channel ADCs, 2.7 to 5.5 V Supply, Industrial, 8-pin SOP (RM-8), Reel; Manufacturer: Analog Devices; PartNumber: AD7416ARMZ-REEL; DatasheetVersion: Rev. I; PackageVersion: 08/2005; PackageReference: RM-8; PackageDescription: 8-Pin Mini Small Outline Package, Body 3 x 3 mm, Pitch 0.65 mm; Supplier 1: Digi-Key; Supplier Part Number 1: AD7416ARMZ-REEL-ND; Supplier 2: Newark; Supplier Part Number 2: 59K4787; Supplier 3: Mouser; Supplier Part Number 3: 584-AD7416ARMZ-R; Packing: Reel; Supply Voltage Range: 2.7 to 5.5 V; Mounting Technology: Surface Mount; Code_JEDEC: MO-187-AA; ComponentLink1Description: Manufacturer URL; ComponentLink1URL: http://www.analog.com/en/index.html; ComponentLink2Description: Datasheet; ComponentLink2URL: http://www.analog.com/static/imported-files/data_sheets/AD7416_7417_7418.pdf; ComponentLink3Description: Package Specification; ComponentLink3URL: http://www.analog.com/static/imported-files/packages/PKG_PDF/MSOP%28RM%29/RM_8.pdf; ComponentLink4Description: Product URL; ComponentLink4URL: http://www.analog.com/en/mems-sensors/digital-temperature-sensors/ad7416/products/product.html
footprint ADI-RM-8_N (SOP, 8-Leads, Body 3x3mm, Pitch 0.65mm, IPC Medium Density)
footprint ADI-RM-8_L (SOP, 8-Leads, Body 3x3mm, Pitch 0.65mm, IPC High Density)
footprint ADI-RM-8_M (SOP, 8-Leads, Body 3x3mm, Pitch 0.65mm, IPC Low Density)
pins: 1 SDA (io) "Digital I/O. Serial bus bidirectional data. Push-pull output.", 2 SCL (in) "Digital Input. Serial bus clock.", 3 OTI (oc) "This pin is a logic output. The OTI is set if the result of a conversion on Channel 0 (temperature sensor) is greater than an 8-bit word in the TOTI setpoint register. The signal is reset at the end of a serial read (See Datasheet)", 4 GND (power) "Ground reference for track-and-hold, comparator and capacitor DAC, and digital circuitry.", 5 A2 (in) "Digital Input. This is the highest programmable bit of the serial bus address.", 6 A1 (in) "Digital Input. This is the middle programmable bit of the serial bus address.", 7 A0 (in) "Digital Input. This is the lowest programmable bit of the serial bus address.", 8 VDD (power) "Positive Supply Voltage, 2.7 V to 5.5 V."